# Altium integrated library MCP23018-E_SS.IntLib: 1 symbol
Pins are listed as number, name and electrical type; pins without a type are passive.

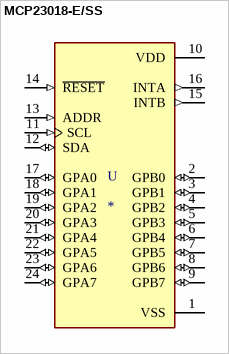
[diagram p0: symbol MCP23018-E/SS]

## MCP23018-E/SS
designator U
I/O Expander 16 IÂ²C 3.4MHz 24-SSOP; MF: Microchip; MP: MCP23018-E/SS; Package: SSOP-24 Microchip; Price: None; Value: *; SnapEDA_Link: https://www.snapeda.com/parts/MCP23018-E/SS/Microchip/view-part/285302/?ref=snap; Availability: Unavailable
footprint SOP65P780X200-24N
pins: 1 VSS (power), 2 GPB0 (io), 3 GPB1 (io), 4 GPB2 (io), 5 GPB3 (io), 6 GPB4 (io), 7 GPB5 (io), 8 GPB6 (io), 9 GPB7 (io), 10 VDD (power), 11 SCL (in), 12 SDA (io), 13 ADDR (in), 14 ~{RESET} (in), 15 INTB (out), 16 INTA (out), 17 GPA0 (io), 18 GPA1 (io), 19 GPA2 (io), 20 GPA3 (io), 21 GPA4 (io), 22 GPA5 (io), 23 GPA6 (io), 24 GPA7 (io)